# EAGLE library part 74AC74PC (library Fairchild_By_element14_Batch_1)
Dual D-Type Positive Edge-Triggered Flip-Flop
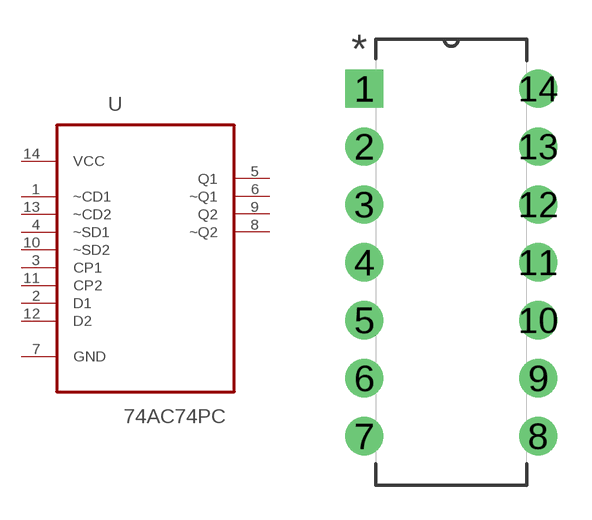
[diagram p31: symbol with the pads of DIP254P762X533-14; footprint DIP254P762X533-14]

Designator prefix U

## 74AC74PC (MPN: 74AC74PC; OC_FARNELL: 1014024; OC_NEWARK: 34C8075; PACKAGE: PDIP-14; SUPPLIER: FAIRCHILD SEMICONDUCTOR)  [DIP254P762X533-14]
1  ~CD1  in
2  D1  in
3  CP1  in
4  ~SD1  in
5  Q1  out
6  ~Q1  out
7  GND  pas
8  ~Q2  out
9  Q2  out
10  ~SD2  in
11  CP2  in
12  D2  in
13  ~CD2  in
14  VCC  pwr

## Footprint DIP254P762X533-14 (pad centres in mm)
drill 1.118 square: 1 -7.62,15.24
drill 1.118: 2 -7.62,12.7; 3 -7.62,10.16; 4 -7.62,7.62; 5 -7.62,5.08; 6 -7.62,2.54; 7 -7.62,0; 8 0,0; 9 0,2.54; 10 0,5.08; 11 0,7.62; 12 0,10.16; 13 0,12.7; 14 0,15.24